# Altium schematic symbol library SCH - MCU - STM32 - ST MICROELECTRONICS STM32F429V(E-G)TX LQFP100.SchLib: 1 symbol
Pins are listed as number, name and electrical type; pins without a type are passive.

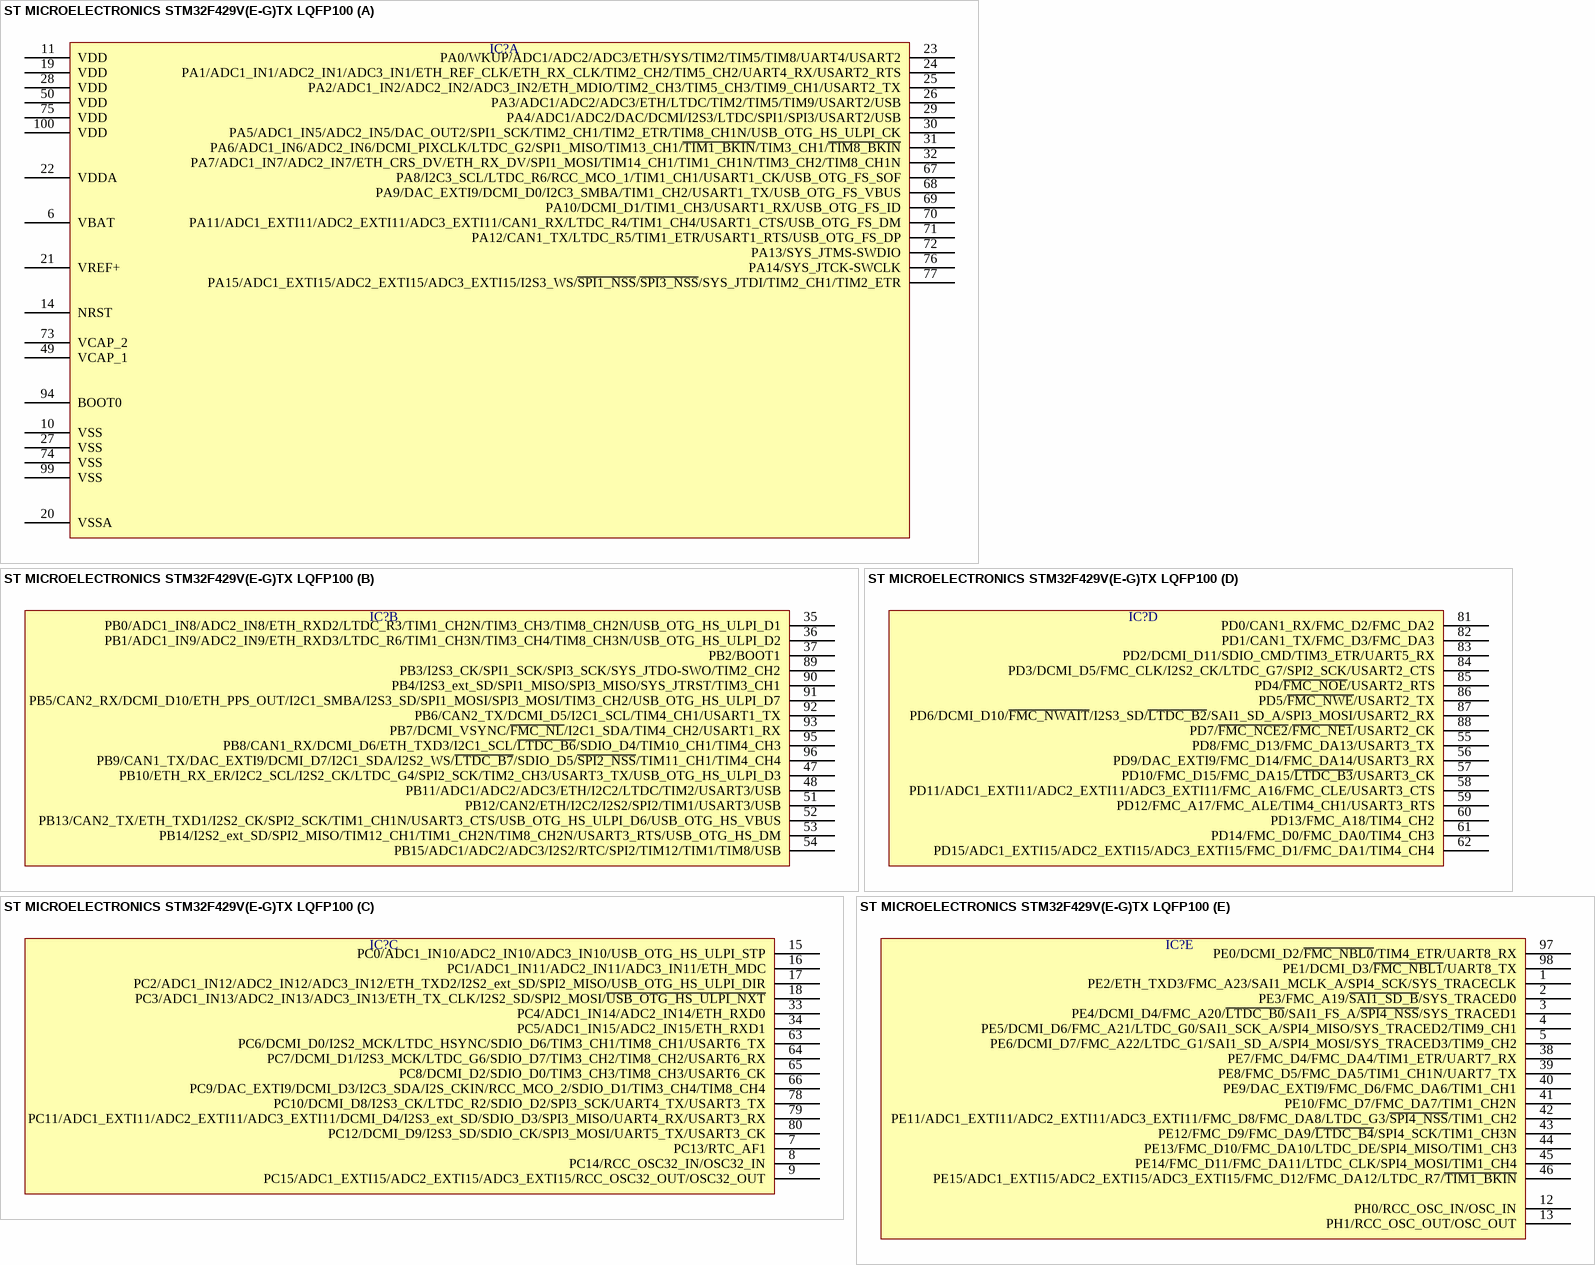
[diagram p0: symbol ST MICROELECTRONICS STM32F429V(E-G)TX LQFP100]

## ST MICROELECTRONICS STM32F429V(E-G)TX LQFP100
designator IC?  (value not drawn)
part A pins: 6 VBAT, 10 VSS, 11 VDD, 14 NRST, 19 VDD, 20 VSSA, 21 VREF+, 22 VDDA, 23 PA0/WKUP/ADC1/ADC2/ADC3/ETH/SYS/TIM2/TIM5/TIM8/UART4/USART2, 24 PA1/ADC1_IN1/ADC2_IN1/ADC3_IN1/ETH_REF_CLK/ETH_RX_CLK/TIM2_CH2/TIM5_CH2/UART4_RX/USART2_RTS, 25 PA2/ADC1_IN2/ADC2_IN2/ADC3_IN2/ETH_MDIO/TIM2_CH3/TIM5_CH3/TIM9_CH1/USART2_TX, 26 PA3/ADC1/ADC2/ADC3/ETH/LTDC/TIM2/TIM5/TIM9/USART2/USB, 27 VSS, 28 VDD, 29 PA4/ADC1/ADC2/DAC/DCMI/I2S3/LTDC/SPI1/SPI3/USART2/USB, 30 PA5/ADC1_IN5/ADC2_IN5/DAC_OUT2/SPI1_SCK/TIM2_CH1/TIM2_ETR/TIM8_CH1N/USB_OTG_HS_ULPI_CK, 31 PA6/ADC1_IN6/ADC2_IN6/DCMI_PIXCLK/LTDC_G2/SPI1_MISO/TIM13_CH1/~{TIM1_BKIN}/TIM3_CH1/~{TIM8_BKIN}, 32 PA7/ADC1_IN7/ADC2_IN7/ETH_CRS_DV/ETH_RX_DV/SPI1_MOSI/TIM14_CH1/TIM1_CH1N/TIM3_CH2/TIM8_CH1N, 49 VCAP_1, 50 VDD, 67 PA8/I2C3_SCL/LTDC_R6/RCC_MCO_1/TIM1_CH1/USART1_CK/USB_OTG_FS_SOF, 68 PA9/DAC_EXTI9/DCMI_D0/I2C3_SMBA/TIM1_CH2/USART1_TX/USB_OTG_FS_VBUS, 69 PA10/DCMI_D1/TIM1_CH3/USART1_RX/USB_OTG_FS_ID, 70 PA11/ADC1_EXTI11/ADC2_EXTI11/ADC3_EXTI11/CAN1_RX/LTDC_R4/TIM1_CH4/USART1_CTS/USB_OTG_FS_DM, 71 PA12/CAN1_TX/LTDC_R5/TIM1_ETR/USART1_RTS/USB_OTG_FS_DP, 72 PA13/SYS_JTMS-SWDIO, 73 VCAP_2, 74 VSS, 75 VDD, 76 PA14/SYS_JTCK-SWCLK, 77 PA15/ADC1_EXTI15/ADC2_EXTI15/ADC3_EXTI15/I2S3_WS/~{SPI1_NSS}/~{SPI3_NSS}/SYS_JTDI/TIM2_CH1/TIM2_ETR, 94 BOOT0, 99 VSS, 100 VDD
part B pins: 35 PB0/ADC1_IN8/ADC2_IN8/ETH_RXD2/LTDC_R3/TIM1_CH2N/TIM3_CH3/TIM8_CH2N/USB_OTG_HS_ULPI_D1, 36 PB1/ADC1_IN9/ADC2_IN9/ETH_RXD3/LTDC_R6/TIM1_CH3N/TIM3_CH4/TIM8_CH3N/USB_OTG_HS_ULPI_D2, 37 PB2/BOOT1, 47 PB10/ETH_RX_ER/I2C2_SCL/I2S2_CK/LTDC_G4/SPI2_SCK/TIM2_CH3/USART3_TX/USB_OTG_HS_ULPI_D3, 48 PB11/ADC1/ADC2/ADC3/ETH/I2C2/LTDC/TIM2/USART3/USB, 51 PB12/CAN2/ETH/I2C2/I2S2/SPI2/TIM1/USART3/USB, 52 PB13/CAN2_TX/ETH_TXD1/I2S2_CK/SPI2_SCK/TIM1_CH1N/USART3_CTS/USB_OTG_HS_ULPI_D6/USB_OTG_HS_VBUS, 53 PB14/I2S2_ext_SD/SPI2_MISO/TIM12_CH1/TIM1_CH2N/TIM8_CH2N/USART3_RTS/USB_OTG_HS_DM, 54 PB15/ADC1/ADC2/ADC3/I2S2/RTC/SPI2/TIM12/TIM1/TIM8/USB, 89 PB3/I2S3_CK/SPI1_SCK/SPI3_SCK/SYS_JTDO-SWO/TIM2_CH2, 90 PB4/I2S3_ext_SD/SPI1_MISO/SPI3_MISO/SYS_JTRST/TIM3_CH1, 91 PB5/CAN2_RX/DCMI_D10/ETH_PPS_OUT/I2C1_SMBA/I2S3_SD/SPI1_MOSI/SPI3_MOSI/TIM3_CH2/USB_OTG_HS_ULPI_D7, 92 PB6/CAN2_TX/DCMI_D5/I2C1_SCL/TIM4_CH1/USART1_TX, 93 PB7/DCMI_VSYNC/~{FMC_NL}/I2C1_SDA/TIM4_CH2/USART1_RX, 95 PB8/CAN1_RX/DCMI_D6/ETH_TXD3/I2C1_SCL/~{LTDC_B6}/SDIO_D4/TIM10_CH1/TIM4_CH3, 96 PB9/CAN1_TX/DAC_EXTI9/DCMI_D7/I2C1_SDA/I2S2_WS/~{LTDC_B7}/SDIO_D5/~{SPI2_NSS}/TIM11_CH1/TIM4_CH4
part C pins: 7 PC13/RTC_AF1, 8 PC14/RCC_OSC32_IN/OSC32_IN, 9 PC15/ADC1_EXTI15/ADC2_EXTI15/ADC3_EXTI15/RCC_OSC32_OUT/OSC32_OUT, 15 PC0/ADC1_IN10/ADC2_IN10/ADC3_IN10/USB_OTG_HS_ULPI_STP, 16 PC1/ADC1_IN11/ADC2_IN11/ADC3_IN11/ETH_MDC, 17 PC2/ADC1_IN12/ADC2_IN12/ADC3_IN12/ETH_TXD2/I2S2_ext_SD/SPI2_MISO/USB_OTG_HS_ULPI_DIR, 18 PC3/ADC1_IN13/ADC2_IN13/ADC3_IN13/ETH_TX_CLK/I2S2_SD/SPI2_MOSI/~{USB_OTG_HS_ULPI_NXT}, 33 PC4/ADC1_IN14/ADC2_IN14/ETH_RXD0, 34 PC5/ADC1_IN15/ADC2_IN15/ETH_RXD1, 63 PC6/DCMI_D0/I2S2_MCK/LTDC_HSYNC/SDIO_D6/TIM3_CH1/TIM8_CH1/USART6_TX, 64 PC7/DCMI_D1/I2S3_MCK/LTDC_G6/SDIO_D7/TIM3_CH2/TIM8_CH2/USART6_RX, 65 PC8/DCMI_D2/SDIO_D0/TIM3_CH3/TIM8_CH3/USART6_CK, 66 PC9/DAC_EXTI9/DCMI_D3/I2C3_SDA/I2S_CKIN/RCC_MCO_2/SDIO_D1/TIM3_CH4/TIM8_CH4, 78 PC10/DCMI_D8/I2S3_CK/LTDC_R2/SDIO_D2/SPI3_SCK/UART4_TX/USART3_TX, 79 PC11/ADC1_EXTI11/ADC2_EXTI11/ADC3_EXTI11/DCMI_D4/I2S3_ext_SD/SDIO_D3/SPI3_MISO/UART4_RX/USART3_RX, 80 PC12/DCMI_D9/I2S3_SD/SDIO_CK/SPI3_MOSI/UART5_TX/USART3_CK
part D pins: 55 PD8/FMC_D13/FMC_DA13/USART3_TX, 56 PD9/DAC_EXTI9/FMC_D14/FMC_DA14/USART3_RX, 57 PD10/FMC_D15/FMC_DA15/~{LTDC_B3}/USART3_CK, 58 PD11/ADC1_EXTI11/ADC2_EXTI11/ADC3_EXTI11/FMC_A16/FMC_CLE/USART3_CTS, 59 PD12/FMC_A17/FMC_ALE/TIM4_CH1/USART3_RTS, 60 PD13/FMC_A18/TIM4_CH2, 61 PD14/FMC_D0/FMC_DA0/TIM4_CH3, 62 PD15/ADC1_EXTI15/ADC2_EXTI15/ADC3_EXTI15/FMC_D1/FMC_DA1/TIM4_CH4, 81 PD0/CAN1_RX/FMC_D2/FMC_DA2, 82 PD1/CAN1_TX/FMC_D3/FMC_DA3, 83 PD2/DCMI_D11/SDIO_CMD/TIM3_ETR/UART5_RX, 84 PD3/DCMI_D5/FMC_CLK/I2S2_CK/LTDC_G7/SPI2_SCK/USART2_CTS, 85 PD4/~{FMC_NOE}/USART2_RTS, 86 PD5/~{FMC_NWE}/USART2_TX, 87 PD6/DCMI_D10/~{FMC_NWAIT}/I2S3_SD/~{LTDC_B2}/SAI1_SD_A/SPI3_MOSI/USART2_RX, 88 PD7/~{FMC_NCE2}/~{FMC_NE1}/USART2_CK
part E pins: 1 PE2/ETH_TXD3/FMC_A23/SAI1_MCLK_A/SPI4_SCK/SYS_TRACECLK, 2 PE3/FMC_A19/~{SAI1_SD_B}/SYS_TRACED0, 3 PE4/DCMI_D4/FMC_A20/~{LTDC_B0}/SAI1_FS_A/~{SPI4_NSS}/SYS_TRACED1, 4 PE5/DCMI_D6/FMC_A21/LTDC_G0/SAI1_SCK_A/SPI4_MISO/SYS_TRACED2/TIM9_CH1, 5 PE6/DCMI_D7/FMC_A22/LTDC_G1/SAI1_SD_A/SPI4_MOSI/SYS_TRACED3/TIM9_CH2, 12 PH0/RCC_OSC_IN/OSC_IN, 13 PH1/RCC_OSC_OUT/OSC_OUT, 38 PE7/FMC_D4/FMC_DA4/TIM1_ETR/UART7_RX, 39 PE8/FMC_D5/FMC_DA5/TIM1_CH1N/UART7_TX, 40 PE9/DAC_EXTI9/FMC_D6/FMC_DA6/TIM1_CH1, 41 PE10/FMC_D7/FMC_DA7/TIM1_CH2N, 42 PE11/ADC1_EXTI11/ADC2_EXTI11/ADC3_EXTI11/FMC_D8/FMC_DA8/LTDC_G3/~{SPI4_NSS}/TIM1_CH2, 43 PE12/FMC_D9/FMC_DA9/~{LTDC_B4}/SPI4_SCK/TIM1_CH3N, 44 PE13/FMC_D10/FMC_DA10/LTDC_DE/SPI4_MISO/TIM1_CH3, 45 PE14/FMC_D11/FMC_DA11/LTDC_CLK/SPI4_MOSI/TIM1_CH4, 46 PE15/ADC1_EXTI15/ADC2_EXTI15/ADC3_EXTI15/FMC_D12/FMC_DA12/LTDC_R7/~{TIM1_BKIN}, 97 PE0/DCMI_D2/~{FMC_NBL0}/TIM4_ETR/UART8_RX, 98 PE1/DCMI_D3/~{FMC_NBL1}/UART8_TX